# Altium schematic symbol library Buttons.SchLib: 3 symbols
Pins are listed as number, name and electrical type; pins without a type are passive.

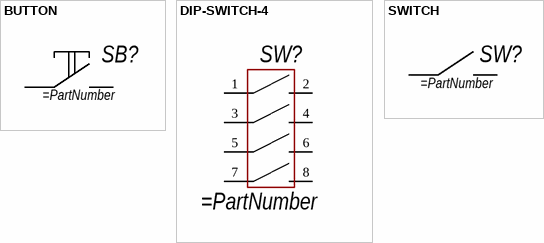
[diagram p0: symbols BUTTON to SWITCH]

## BUTTON
designator SB?
pins: 1, 2

## DIP-SWITCH-4
designator SW?
pins: 1, 2, 3, 4, 5, 6, 7, 8

## SWITCH
designator SW?
pins: 1, 2